# EAGLE library part TEXAS_INSTRUMENTS-CLOCK_BUFFER-CDCLVC1310RHBR (library Module_ICs)
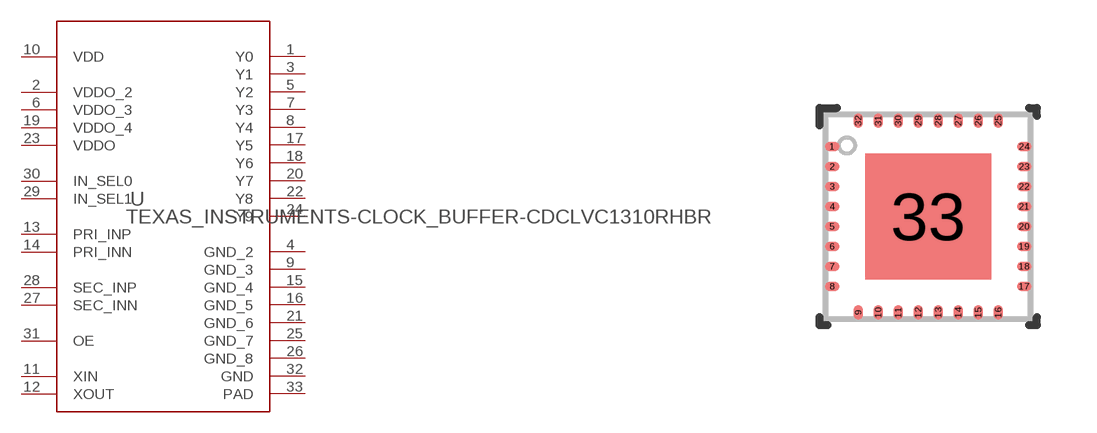
[diagram p11: symbol with the pads of TEXAS_INSTRUMENTS-CLOCK_BUFFER-CDCLVC1310RHBR; footprint TEXAS_INSTRUMENTS-CLOCK_BUFFER-CDCLVC1310RHBR]

Designator prefix U

## TEXAS_INSTRUMENTS-CLOCK_BUFFER-CDCLVC1310RHBR (MANUFACTURER: Texas Instruments; PARTNUMBER: CDCLVC1310RHBR; REFDES: RefDes; TYPE: TYPE; VALUE: Value)  [TEXAS_INSTRUMENTS-CLOCK_BUFFER-CDCLVC1310RHBR]
1  Y0  out
2  VDDO_2  pwr
3  Y1  out
4  GND_2  pwr
5  Y2  out
6  VDDO_3  pwr
7  Y3  out
8  Y4  out
9  GND_3  pwr
10  VDD  pwr
11  XIN  pas
12  XOUT  pas
13  PRI_INP  in
14  PRI_INN  in
15  GND_4  pwr
16  GND_5  pwr
17  Y5  out
18  Y6  out
19  VDDO_4  pwr
20  Y7  out
21  GND_6  pwr
22  Y8  out
23  VDDO  pwr
24  Y9  out
25  GND_7  pwr
26  GND_8  pwr
27  SEC_INN  in
28  SEC_INP  in
29  IN_SEL1  in
30  IN_SEL0  in
31  OE  in
32  GND  pwr
33  PAD  pwr

## Footprint TEXAS_INSTRUMENTS-CLOCK_BUFFER-CDCLVC1310RHBR (pad centres in mm)
smd 0.36 x 0.24: 1 -2.4,1.75; 2 -2.4,1.25; 3 -2.4,0.75; 4 -2.4,0.25; 5 -2.4,-0.25; 6 -2.4,-0.75; 7 -2.4,-1.25; 8 -2.4,-1.75; 17 2.4,-1.75; 18 2.4,-1.25; 19 2.4,-0.75; 20 2.4,-0.25; 21 2.4,0.25; 22 2.4,0.75; 23 2.4,1.25; 24 2.4,1.75
smd 0.24 x 0.36: 9 -1.75,-2.4; 10 -1.25,-2.4; 11 -0.75,-2.4; 12 -0.25,-2.4; 13 0.25,-2.4; 14 0.75,-2.4; 15 1.25,-2.4; 16 1.75,-2.4; 25 1.75,2.4; 26 1.25,2.4; 27 0.75,2.4; 28 0.25,2.4; 29 -0.25,2.4; 30 -0.75,2.4; 31 -1.25,2.4; 32 -1.75,2.4
smd 3.15 x 3.15: 33 0,0